# Altium integrated library Microcontroller PIC.IntLib: 7 symbols
Pins are listed as number, name and electrical type; pins without a type are passive.

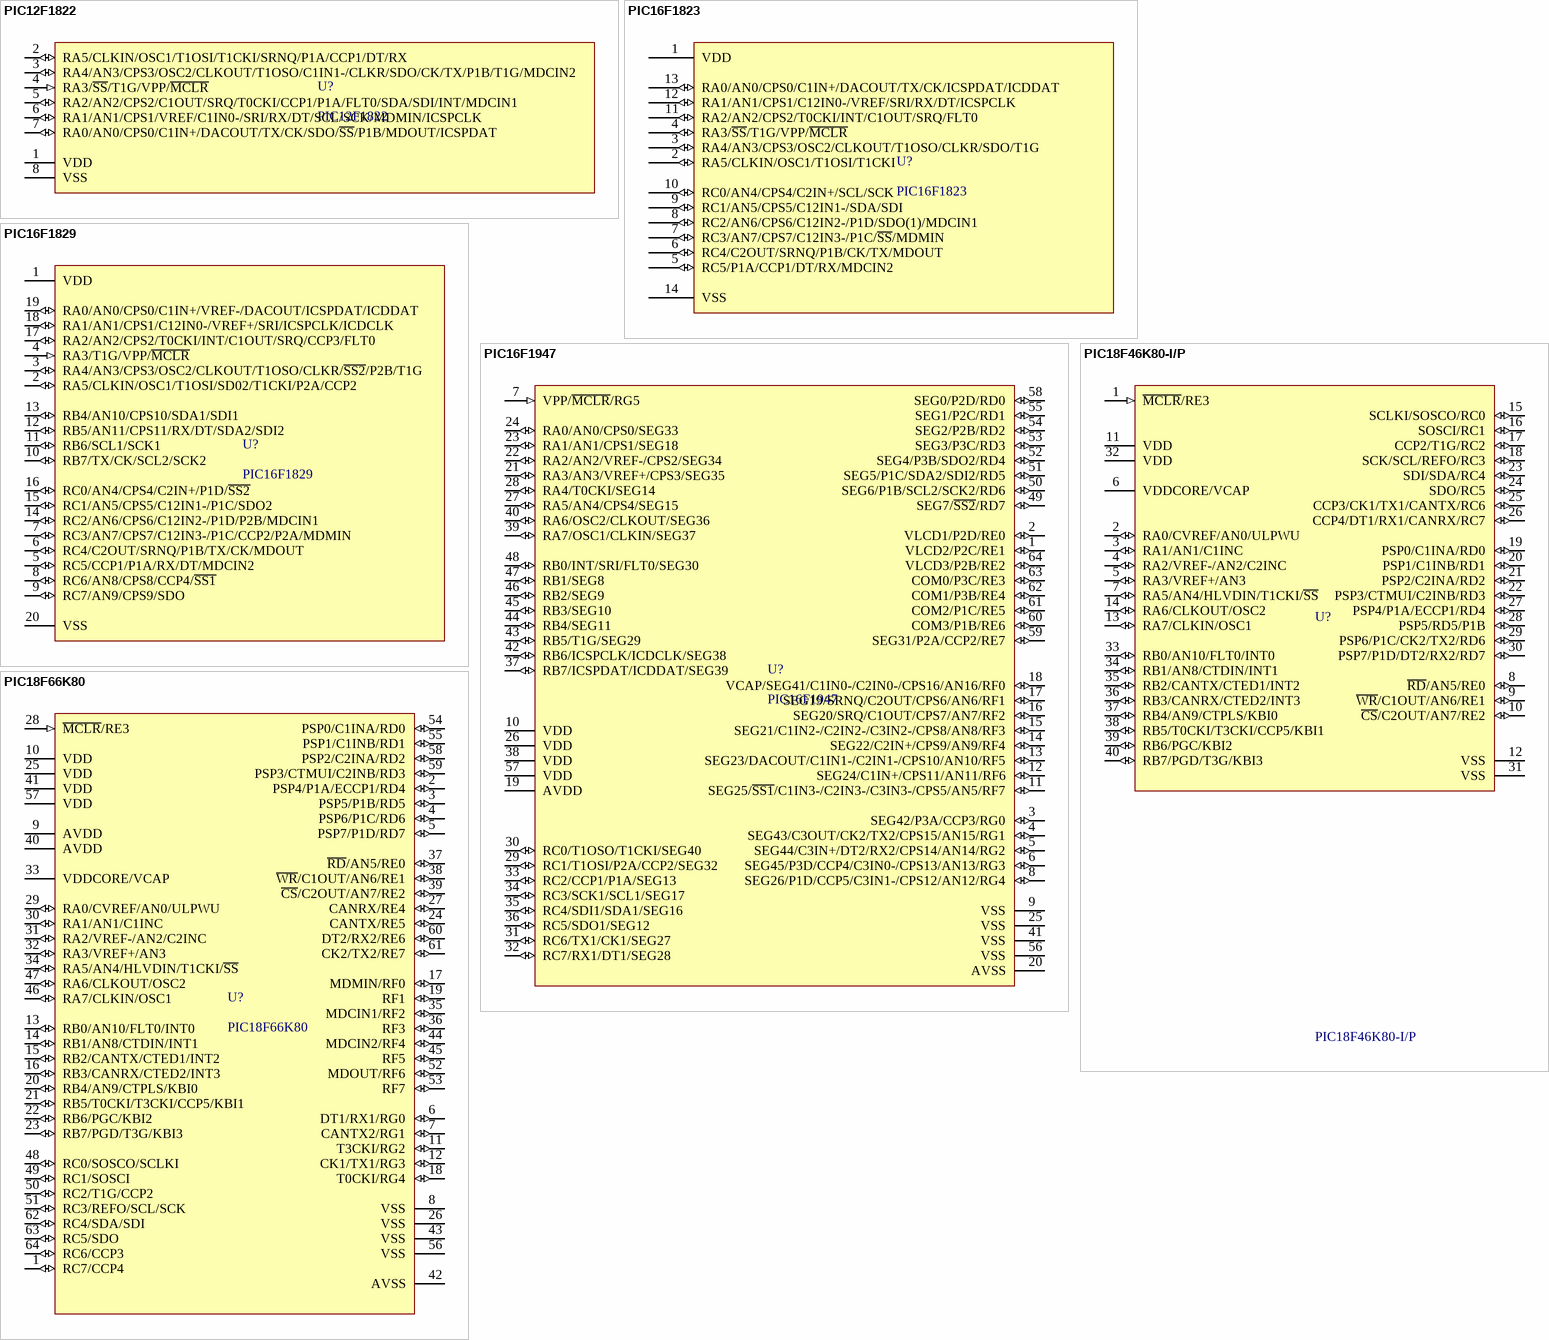
[diagram p0: symbols PIC12F1822 to PIC18F66K80]

## PIC12F1822
designator U?
Microchip; ComponentLinkp-URL: https://www.smartw.ir/; DatasheetVersion: 2022
footprint DIP 8 GGG
pins: 1 VDD (power), 2 RA5/CLKIN/OSC1/T1OSI/T1CKI/SRNQ/P1A/CCP1/DT/RX (io), 3 RA4/AN3/CPS3/OSC2/CLKOUT/T1OSO/C1IN1-/CLKR/SDO/CK/TX/P1B/T1G/MDCIN2 (io), 4 RA3/~{SS}/T1G/VPP/~{MCLR} (in), 5 RA2/AN2/CPS2/C1OUT/SRQ/T0CKI/CCP1/P1A/FLT0/SDA/SDI/INT/MDCIN1 (io), 6 RA1/AN1/CPS1/VREF/C1IN0-/SRI/RX/DT/SCL/SCK/MDMIN/ICSPCLK (io), 7 RA0/AN0/CPS0/C1IN+/DACOUT/TX/CK/SDO/~{SS}/P1B/MDOUT/ICSPDAT (io), 8 VSS (power)

## PIC16F1823
designator U?
ComponentLinkp-URL: https://www.smartw.ir/; DatasheetVersion: 2022
footprint DIP 14 (DIP, 14-Leads, Row Spacing 7.62mm, Pitch 2.54mm, Body 19.2x6.6mm)
pins: 1 VDD (power), 2 RA5/CLKIN/OSC1/T1OSI/T1CKI (io), 3 RA4/AN3/CPS3/OSC2/CLKOUT/T1OSO/CLKR/SDO/T1G (io), 4 RA3/~{SS}/T1G/VPP/~{MCLR} (io), 5 RC5/P1A/CCP1/DT/RX/MDCIN2 (io), 6 RC4/C2OUT/SRNQ/P1B/CK/TX/MDOUT (io), 7 RC3/AN7/CPS7/C12IN3-/P1C/~{SS}/MDMIN (io), 8 RC2/AN6/CPS6/C12IN2-/P1D/SDO(1)/MDCIN1 (io), 9 RC1/AN5/CPS5/C12IN1-/SDA/SDI (io), 10 RC0/AN4/CPS4/C2IN+/SCL/SCK (io), 11 RA2/AN2/CPS2/T0CKI/INT/C1OUT/SRQ/FLT0 (io), 12 RA1/AN1/CPS1/C12IN0-/VREF/SRI/RX/DT/ICSPCLK (io), 13 RA0/AN0/CPS0/C1IN+/DACOUT/TX/CK/ICSPDAT/ICDDAT (io), 14 VSS

## PIC16F1829
designator U?
Microchip; ComponentLinkp-URL: https://www.smartw.ir/; DatasheetVersion: 2022
footprint DIP_20
footprint SOIC_SO20 (SOIC, 20-Leads, Body 12.8x7.5mm, Pitch 1.27mm, IPC Medium Density)
pins: 1 VDD (power), 2 RA5/CLKIN/OSC1/T1OSI/SD02/T1CKI/P2A/CCP2 (io), 3 RA4/AN3/CPS3/OSC2/CLKOUT/T1OSO/CLKR/~{SS2}/P2B/T1G (io), 4 RA3/T1G/VPP/~{MCLR} (in), 5 RC5/CCP1/P1A/RX/DT/MDCIN2 (io), 6 RC4/C2OUT/SRNQ/P1B/TX/CK/MDOUT (io), 7 RC3/AN7/CPS7/C12IN3-/P1C/CCP2/P2A/MDMIN (io), 8 RC6/AN8/CPS8/CCP4/~{SS1} (io), 9 RC7/AN9/CPS9/SDO (io), 10 RB7/TX/CK/SCL2/SCK2 (io), 11 RB6/SCL1/SCK1 (io), 12 RB5/AN11/CPS11/RX/DT/SDA2/SDI2 (io), 13 RB4/AN10/CPS10/SDA1/SDI1 (io), 14 RC2/AN6/CPS6/C12IN2-/P1D/P2B/MDCIN1 (io), 15 RC1/AN5/CPS5/C12IN1-/P1C/SDO2 (io), 16 RC0/AN4/CPS4/C2IN+/P1D/~{SS2} (io), 17 RA2/AN2/CPS2/T0CKI/INT/C1OUT/SRQ/CCP3/FLT0 (io), 18 RA1/AN1/CPS1/C12IN0-/VREF+/SRI/ICSPCLK/ICDCLK (io), 19 RA0/AN0/CPS0/C1IN+/VREF-/DACOUT/ICSPDAT/ICDDAT (io), 20 VSS (power)

## PIC16F1947
designator U?
Microchip; ComponentLinkp-URL: https://www.smartw.ir/; DatasheetVersion: 2022
footprint TQFP-PT64
pins: 1 VLCD2/P2C/RE1 (io), 2 VLCD1/P2D/RE0 (io), 3 SEG42/P3A/CCP3/RG0 (io), 4 SEG43/C3OUT/CK2/TX2/CPS15/AN15/RG1 (io), 5 SEG44/C3IN+/DT2/RX2/CPS14/AN14/RG2 (io), 6 SEG45/P3D/CCP4/C3IN0-/CPS13/AN13/RG3 (io), 7 VPP/~{MCLR}/RG5 (in), 8 SEG26/P1D/CCP5/C3IN1-/CPS12/AN12/RG4 (io), 9 VSS (power), 10 VDD (power), 11 SEG25/~{SS1}/C1IN3-/C2IN3-/C3IN3-/CPS5/AN5/RF7 (io), 12 SEG24/C1IN+/CPS11/AN11/RF6 (io), 13 SEG23/DACOUT/C1IN1-/C2IN1-/CPS10/AN10/RF5 (io), 14 SEG22/C2IN+/CPS9/AN9/RF4 (io), 15 SEG21/C1IN2-/C2IN2-/C3IN2-/CPS8/AN8/RF3 (io), 16 SEG20/SRQ/C1OUT/CPS7/AN7/RF2 (io), 17 SEG19/SRNQ/C2OUT/CPS6/AN6/RF1 (io), 18 VCAP/SEG41/C1IN0-/C2IN0-/CPS16/AN16/RF0 (io), 19 AVDD (power), 20 AVSS (power), 21 RA3/AN3/VREF+/CPS3/SEG35 (io), 22 RA2/AN2/VREF-/CPS2/SEG34 (io), 23 RA1/AN1/CPS1/SEG18 (io), 24 RA0/AN0/CPS0/SEG33 (io), 25 VSS (power), 26 VDD (power), 27 RA5/AN4/CPS4/SEG15 (io), 28 RA4/T0CKI/SEG14 (io), 29 RC1/T1OSI/P2A/CCP2/SEG32 (io), 30 RC0/T1OSO/T1CKI/SEG40 (io), 31 RC6/TX1/CK1/SEG27 (io), 32 RC7/RX1/DT1/SEG28 (io), 33 RC2/CCP1/P1A/SEG13 (io), 34 RC3/SCK1/SCL1/SEG17 (io), 35 RC4/SDI1/SDA1/SEG16 (io), 36 RC5/SDO1/SEG12 (io), 37 RB7/ICSPDAT/ICDDAT/SEG39 (io), 38 VDD (power), 39 RA7/OSC1/CLKIN/SEG37 (io), 40 RA6/OSC2/CLKOUT/SEG36 (io), 41 VSS (power), 42 RB6/ICSPCLK/ICDCLK/SEG38 (io), 43 RB5/T1G/SEG29 (io), 44 RB4/SEG11 (io), 45 RB3/SEG10 (io), 46 RB2/SEG9 (io), 47 RB1/SEG8 (io), 48 RB0/INT/SRI/FLT0/SEG30 (io), 49 SEG7/~{SS2}/RD7 (io), 50 SEG6/P1B/SCL2/SCK2/RD6 (io), 51 SEG5/P1C/SDA2/SDI2/RD5 (io), 52 SEG4/P3B/SDO2/RD4 (io), 53 SEG3/P3C/RD3 (io), 54 SEG2/P2B/RD2 (io), 55 SEG1/P2C/RD1 (io), 56 VSS (power), 57 VDD (power), 58 SEG0/P2D/RD0 (io), 59 SEG31/P2A/CCP2/RE7 (io), 60 COM3/P1B/RE6 (io), 61 COM2/P1C/RE5 (io), 62 COM1/P3B/RE4 (io), 63 COM0/P3C/RE3 (io), 64 VLCD3/P2B/RE2 (io)

## PIC18F46K80-I/P
designator U?
ComponentLinkp-URL: https://www.smartw.ir/; DatasheetVersion: 2022
footprint DIP 40 (DIP, 40-Leads, Row Spacing 15.24mm, Pitch 2.54mm, Body 51.8x13.5mm)
pins: 1 ~{MCLR}/RE3 (in), 2 RA0/CVREF/AN0/ULPWU (io), 3 RA1/AN1/C1INC (io), 4 RA2/VREF-/AN2/C2INC (io), 5 RA3/VREF+/AN3 (io), 6 VDDCORE/VCAP (power), 7 RA5/AN4/HLVDIN/T1CKI/~{SS} (io), 8 ~{RD}/AN5/RE0 (io), 9 ~{WR}/C1OUT/AN6/RE1 (io), 10 ~{CS}/C2OUT/AN7/RE2 (io), 11 VDD (power), 12 VSS, 13 RA7/CLKIN/OSC1 (io), 14 RA6/CLKOUT/OSC2 (io), 15 SCLKI/SOSCO/RC0 (io), 16 SOSCI/RC1 (io), 17 CCP2/T1G/RC2 (io), 18 SCK/SCL/REFO/RC3 (io), 19 PSP0/C1INA/RD0 (io), 20 PSP1/C1INB/RD1 (io), 21 PSP2/C2INA/RD2 (io), 22 PSP3/CTMUI/C2INB/RD3 (io), 23 SDI/SDA/RC4 (io), 24 SDO/RC5 (io), 25 CCP3/CK1/TX1/CANTX/RC6 (io), 26 CCP4/DT1/RX1/CANRX/RC7 (io), 27 PSP4/P1A/ECCP1/RD4 (io), 28 PSP5/RD5/P1B (io), 29 PSP6/P1C/CK2/TX2/RD6 (io), 30 PSP7/P1D/DT2/RX2/RD7 (io), 31 VSS, 32 VDD (power), 33 RB0/AN10/FLT0/INT0 (io), 34 RB1/AN8/CTDIN/INT1 (io), 35 RB2/CANTX/CTED1/INT2 (io), 36 RB3/CANRX/CTED2/INT3 (io), 37 RB4/AN9/CTPLS/KBI0 (io), 38 RB5/T0CKI/T3CKI/CCP5/KBI1 (io), 39 RB6/PGC/KBI2 (io), 40 RB7/PGD/T3G/KBI3 (io)

## PIC18F66K80
designator U?
Microchip; ComponentLinkp-URL: https://www.smartw.ir/; DatasheetVersion: 2022
footprint TQFP-PT64
pins: 1 RC7/CCP4 (io), 2 PSP4/P1A/ECCP1/RD4 (io), 3 PSP5/P1B/RD5 (io), 4 PSP6/P1C/RD6 (io), 5 PSP7/P1D/RD7 (io), 6 DT1/RX1/RG0 (io), 7 CANTX2/RG1 (io), 8 VSS (power), 9 AVDD (power), 10 VDD (power), 11 T3CKI/RG2 (io), 12 CK1/TX1/RG3 (io), 13 RB0/AN10/FLT0/INT0 (io), 14 RB1/AN8/CTDIN/INT1 (io), 15 RB2/CANTX/CTED1/INT2 (io), 16 RB3/CANRX/CTED2/INT3 (io), 17 MDMIN/RF0 (io), 18 T0CKI/RG4 (io), 19 RF1 (io), 20 RB4/AN9/CTPLS/KBI0 (io), 21 RB5/T0CKI/T3CKI/CCP5/KBI1 (io), 22 RB6/PGC/KBI2 (io), 23 RB7/PGD/T3G/KBI3 (io), 24 CANTX/RE5 (io), 25 VDD (power), 26 VSS (power), 27 CANRX/RE4 (io), 28 ~{MCLR}/RE3 (in), 29 RA0/CVREF/AN0/ULPWU (io), 30 RA1/AN1/C1INC (io), 31 RA2/VREF-/AN2/C2INC (io), 32 RA3/VREF+/AN3 (io), 33 VDDCORE/VCAP (power), 34 RA5/AN4/HLVDIN/T1CKI/~{SS} (io), 35 MDCIN1/RF2 (io), 36 RF3 (io), 37 ~{RD}/AN5/RE0 (io), 38 ~{WR}/C1OUT/AN6/RE1 (io), 39 ~{CS}/C2OUT/AN7/RE2 (io), 40 AVDD (power), 41 VDD (power), 42 AVSS (power), 43 VSS (power), 44 MDCIN2/RF4 (io), 45 RF5 (io), 46 RA7/CLKIN/OSC1 (io), 47 RA6/CLKOUT/OSC2 (io), 48 RC0/SOSCO/SCLKI (io), 49 RC1/SOSCI (io), 50 RC2/T1G/CCP2 (io), 51 RC3/REFO/SCL/SCK (io), 52 MDOUT/RF6 (io), 53 RF7 (io), 54 PSP0/C1INA/RD0 (io), 55 PSP1/C1INB/RD1 (io), 56 VSS (power), 57 VDD (power), 58 PSP2/C2INA/RD2 (io), 59 PSP3/CTMUI/C2INB/RD3 (io), 60 DT2/RX2/RE6 (io), 61 CK2/TX2/RE7 (io), 62 RC4/SDA/SDI (io), 63 RC5/SDO (io), 64 RC6/CCP3 (io)

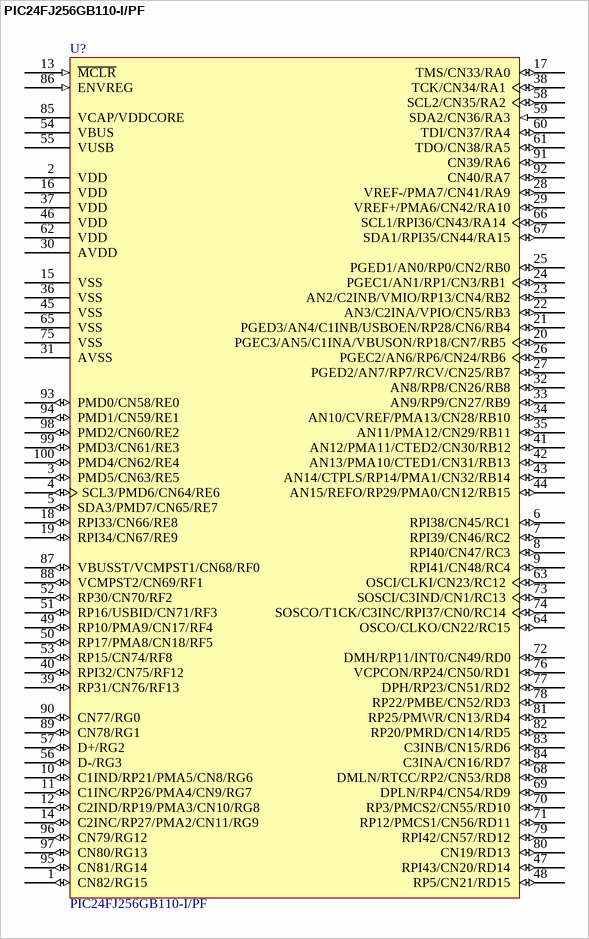
[diagram p1: symbol PIC24FJ256GB110-I/PF]

## PIC24FJ256GB110-I/PF
designator U?
General Purpose 16-Bit Flash Microcontroller with USB On-The-Go, 256KB Flash, 16KB SRAM, 100-Pin TQFP (14x14x1 mm), Industrial Temperature; ComponentLinkp-URL: https://www.smartw.ir/; DatasheetVersion: 2022
footprint TQFP-PT100 (Thin QFP, 100Leads, Body 14x14mm, Pitch 0.5mm, IPC Medium Density)
pins: 1 CN82/RG15 (io), 2 VDD (power), 3 PMD5/CN63/RE5 (io), 4 SCL3/PMD6/CN64/RE6 (io), 5 SDA3/PMD7/CN65/RE7 (io), 6 RPI38/CN45/RC1 (io), 7 RPI39/CN46/RC2 (io), 8 RPI40/CN47/RC3 (io), 9 RPI41/CN48/RC4 (io), 10 C1IND/RP21/PMA5/CN8/RG6 (io), 11 C1INC/RP26/PMA4/CN9/RG7 (io), 12 C2IND/RP19/PMA3/CN10/RG8 (io), 13 ~{MCLR} (in), 14 C2INC/RP27/PMA2/CN11/RG9 (io), 15 VSS (power), 16 VDD (power), 17 TMS/CN33/RA0 (io), 18 RPI33/CN66/RE8 (io), 19 RPI34/CN67/RE9 (io), 20 PGEC3/AN5/C1INA/VBUSON/RP18/CN7/RB5 (io), 21 PGED3/AN4/C1INB/USBOEN/RP28/CN6/RB4 (io), 22 AN3/C2INA/VPIO/CN5/RB3 (io), 23 AN2/C2INB/VMIO/RP13/CN4/RB2 (io), 24 PGEC1/AN1/RP1/CN3/RB1 (io), 25 PGED1/AN0/RP0/CN2/RB0 (io), 26 PGEC2/AN6/RP6/CN24/RB6 (io), 27 PGED2/AN7/RP7/RCV/CN25/RB7 (io), 28 VREF-/PMA7/CN41/RA9 (io), 29 VREF+/PMA6/CN42/RA10 (io), 30 AVDD (power), 31 AVSS (power), 32 AN8/RP8/CN26/RB8 (io), 33 AN9/RP9/CN27/RB9 (io), 34 AN10/CVREF/PMA13/CN28/RB10 (io), 35 AN11/PMA12/CN29/RB11 (io), 36 VSS (power), 37 VDD (power), 38 TCK/CN34/RA1 (io), 39 RP31/CN76/RF13 (io), 40 RPI32/CN75/RF12 (io), 41 AN12/PMA11/CTED2/CN30/RB12 (io), 42 AN13/PMA10/CTED1/CN31/RB13 (io), 43 AN14/CTPLS/RP14/PMA1/CN32/RB14 (io), 44 AN15/REFO/RP29/PMA0/CN12/RB15 (io), 45 VSS (power), 46 VDD (power), 47 RPI43/CN20/RD14 (io), 48 RP5/CN21/RD15 (io), 49 RP10/PMA9/CN17/RF4 (io), 50 RP17/PMA8/CN18/RF5 (io), 51 RP16/USBID/CN71/RF3 (io), 52 RP30/CN70/RF2 (io), 53 RP15/CN74/RF8 (io), 54 VBUS (power), 55 VUSB (power), 56 D-/RG3 (io), 57 D+/RG2 (io), 58 SCL2/CN35/RA2 (io), 59 SDA2/CN36/RA3 (in), 60 TDI/CN37/RA4 (io), 61 TDO/CN38/RA5 (io), 62 VDD (power), 63 OSCI/CLKI/CN23/RC12 (io), 64 OSCO/CLKO/CN22/RC15 (io), 65 VSS (power), 66 SCL1/RPI36/CN43/RA14 (io), 67 SDA1/RPI35/CN44/RA15 (io), 68 DMLN/RTCC/RP2/CN53/RD8 (io), 69 DPLN/RP4/CN54/RD9 (io), 70 RP3/PMCS2/CN55/RD10 (io), 71 RP12/PMCS1/CN56/RD11 (io), 72 DMH/RP11/INT0/CN49/RD0 (io), 73 SOSCI/C3IND/CN1/RC13 (io), 74 SOSCO/T1CK/C3INC/RPI37/CN0/RC14 (io), 75 VSS (power), 76 VCPCON/RP24/CN50/RD1 (io), 77 DPH/RP23/CN51/RD2 (io), 78 RP22/PMBE/CN52/RD3 (io), 79 RPI42/CN57/RD12 (io), 80 CN19/RD13 (io), 81 RP25/PMWR/CN13/RD4 (io), 82 RP20/PMRD/CN14/RD5 (io), 83 C3INB/CN15/RD6 (io), 84 C3INA/CN16/RD7 (io), 85 VCAP/VDDCORE (power), 86 ENVREG (in), 87 VBUSST/VCMPST1/CN68/RF0 (io), 88 VCMPST2/CN69/RF1 (io), 89 CN78/RG1 (io), 90 CN77/RG0 (io), 91 CN39/RA6 (io), 92 CN40/RA7 (io), 93 PMD0/CN58/RE0 (io), 94 PMD1/CN59/RE1 (io), 95 CN81/RG14 (io), 96 CN79/RG12 (io), 97 CN80/RG13 (io), 98 PMD2/CN60/RE2 (io), 99 PMD3/CN61/RE3 (io), 100 PMD4/CN62/RE4 (io)